# EAGLE library part MC33153DG (library ON Semiconductor_By_element14_Batch_1)
Single IGBT Gate Driver
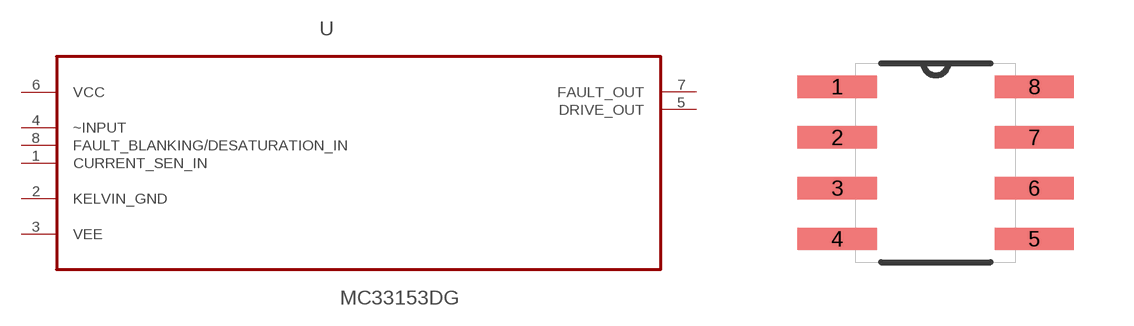
[diagram p348: symbol with the pads of SOIC127P600X175-8N; footprint SOIC127P600X175-8N]

Designator prefix U

## MC33153DG (MPN: MC33153DG; OC_FARNELL: 1104702; OC_NEWARK: 42K0579; P1I: o; PACKAGE: SOIC-8; SUPPLIER: Onsemiconductor)  [SOIC127P600X175-8N]
1  CURRENT_SEN_IN  in
2  KELVIN_GND  pas
3  VEE  pwr
4  ~INPUT  in
5  DRIVE_OUT  out
6  VCC  pwr
7  FAULT_OUT  out
8  FAULT_BLANKING/DESATURATION_IN  in

## Footprint SOIC127P600X175-8N (pad centres in mm)
smd 1.981 x 0.559: 1 -2.464,1.905; 2 -2.464,0.635; 3 -2.464,-0.635; 4 -2.464,-1.905; 5 2.464,-1.905; 6 2.464,-0.635; 7 2.464,0.635; 8 2.464,1.905